# EAGLE library part 8PIN-CON (library my_connector)
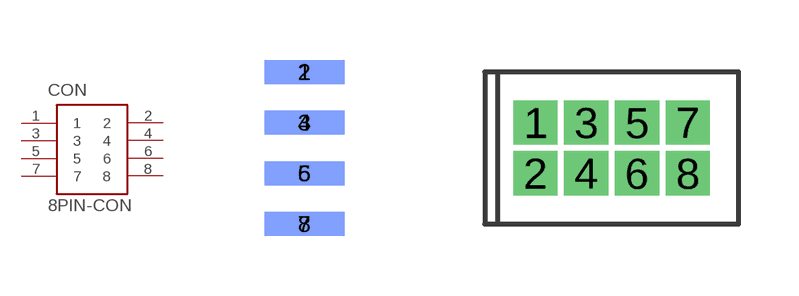
[diagram p0: symbol with the pads of 1.27-SAND; footprints 1.27-SAND, 1.27-CON]

Designator prefix CON

## 8PIN-CON  [1.27-SAND]
1  1  pas
2  2  pas
3  3  pas
4  4  pas
5  5  pas
6  6  pas
7  7  pas
8  8  pas

## 8PIN-CON-DIP  [1.27-CON]
Pads as for 1.27-SAND

## Footprint 1.27-SAND (pad centres in mm)
smd 2 x 0.6: 1 0,1.905; 3 0,0.635; 5 0,-0.635; 7 0,-1.905
smd 2 x 0.6 bottom: 2 0,1.905; 4 0,0.635; 6 0,-0.635; 8 0,-1.905

## Footprint 1.27-CON (pad centres in mm)
drill 0.6 square: 1 -1.905,0.635; 2 -1.905,-0.635; 3 -0.635,0.635; 4 -0.635,-0.635; 5 0.635,0.635; 6 0.635,-0.635; 7 1.905,0.635; 8 1.905,-0.635